# EAGLE library part 74LVC1G74 (library wheat)
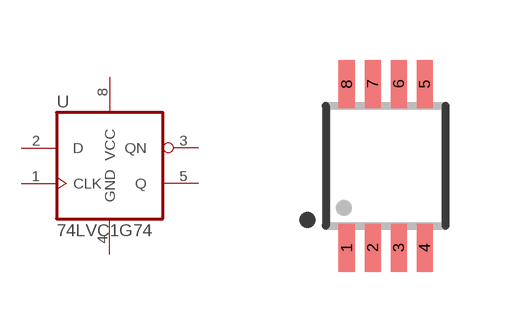
[diagram p167: symbol with the pads of MSOP8; footprint MSOP8]

Designator prefix U

## 74LVC1G74  [MSOP8]
1  CLK  in
2  D  in
3  QN  out
4  GND  pwr
5  Q  out
8  VCC  pwr

## Footprint MSOP8 (pad centres in mm)
MSOP8
smd 0.4 x 1.2: 1 0.295,-2.05; 2 0.945,-2.05; 3 1.595,-2.05; 4 2.245,-2.05; 5 2.245,2.05; 6 1.595,2.05; 7 0.945,2.05; 8 0.295,2.05